# EAGLE library part MICROSD (library pimoroni-connectors)
Micro-SD / Transflash card holder with SPI pinout For the 3M # 2908-05WB-MG and/or 4UCON #19656 push-push type
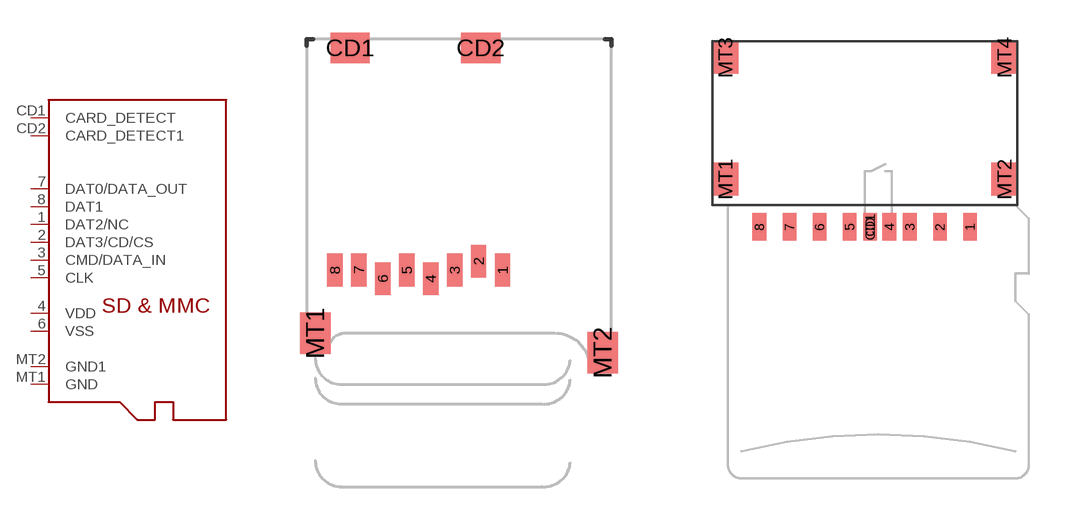
[diagram p10: symbol with the pads of MICROSD; footprints MICROSD, MICROSD-SHORT]

Designator prefix X

## MICROSD  [MICROSD]
1  DAT2/NC
2  DAT3/CD/CS  in
3  CMD/DATA_IN  in
4  VDD  sup
5  CLK  in
6  VSS  sup
7  DAT0/DATA_OUT  out
8  DAT1
CD1  CARD_DETECT  pas
CD2  CARD_DETECT1  pas
MT1  GND  sup
MT2  GND1  sup

## MICROSDMICROSD-SHORT  [MICROSD-SHORT]
1  DAT2/NC
2  DAT3/CD/CS  in
3  CMD/DATA_IN  in
4  VDD  sup
5  CLK  in
6  VSS  sup
7  DAT0/DATA_OUT  out
8  DAT1
CD  CARD_DETECT  pas
CD1  CARD_DETECT1  pas
MT1  GND  sup
MT2  GND1  sup
MT3  GND  sup
MT4  GND1  sup

## Footprint MICROSD (pad centres in mm)
smd 0.7 x 1.5: 1 9,-10.64; 2 7.9,-10.24; 3 6.8,-10.64; 4 5.7,-11.04; 5 4.6,-10.64; 6 3.5,-11.04; 7 2.4,-10.64; 8 1.3,-10.64
smd 1.8 x 1.4: CD1 2,-0.44; CD2 8,-0.44
smd 1.4 x 1.9: MT1 0.4,-13.54; MT2 13.6,-14.44

## Footprint MICROSD-SHORT (pad centres in mm)
smd 0.5 x 1: 1 3.85,-0.8; 2 2.75,-0.8; 3 1.65,-0.8; 4 0.9,-0.8; 5 -0.55,-0.8; 6 -1.65,-0.8; 7 -2.75,-0.8; 8 -3.85,-0.8; CD 0.2,-0.8; CD1 0.2,-0.8
smd 0.95 x 1.2: MT1 -5.1,0.95; MT2 5.1,0.95; MT3 -5.1,5.4; MT4 5.1,5.4